# EAGLE library part MICRO-SD (library Misaka-Connector)
Micro-SD card connector
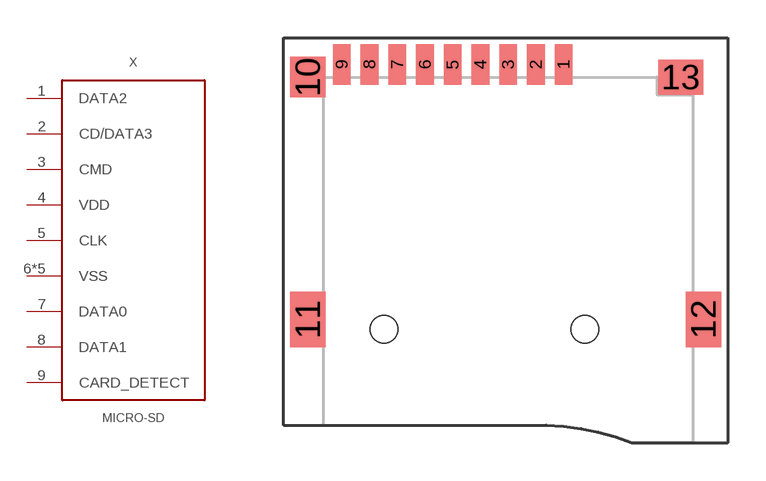
[diagram p1: symbol with the pads of MICROSD_SMD_13.8X14.7; footprint MICROSD_SMD_13.8X14.7]

Designator prefix X

## MICRO-SD  [MICROSD_SMD_13.8X14.7]
1  DATA2
2  CD/DATA3
3  CMD
4  VDD  pwr
5  CLK
6  VSS  pwr
7  DATA0
8  DATA1
9  CARD_DETECT
10  VSS  pwr
11  VSS  pwr
12  VSS  pwr
13  VSS  pwr

## Footprint MICROSD_SMD_13.8X14.7 (pad centres in mm)
smd 0.7 x 1.6: 1 2.2,10.5; 2 1.1,10.5; 3 0,10.5; 4 -1.1,10.5; 5 -2.2,10.5; 6 -3.3,10.5; 7 -4.4,10.5; 8 -5.5,10.5; 9 -6.6,10.5
smd 1.4 x 1.6: 10 -7.95,10
smd 1.4 x 2.2: 11 -7.95,0.4; 12 7.75,0.4
smd 1.8 x 1.4: 13 6.85,10
hole 1.1 at 3.05,0
hole 1.1 at -4.93,0